# Altium footprint library ToponLib.PcbLib: 48 footprints (part 3 of 3)
Each footprint in its own frame and in the unit in brackets; x right, y up, seen from the top. Pads: shape width x height; smd on the part's side, far side on the other; paste and mask are expansions set on the pad; w line width, h text height; cw(c..) or ccw(c..) is an arc to the next point about the centre after c.
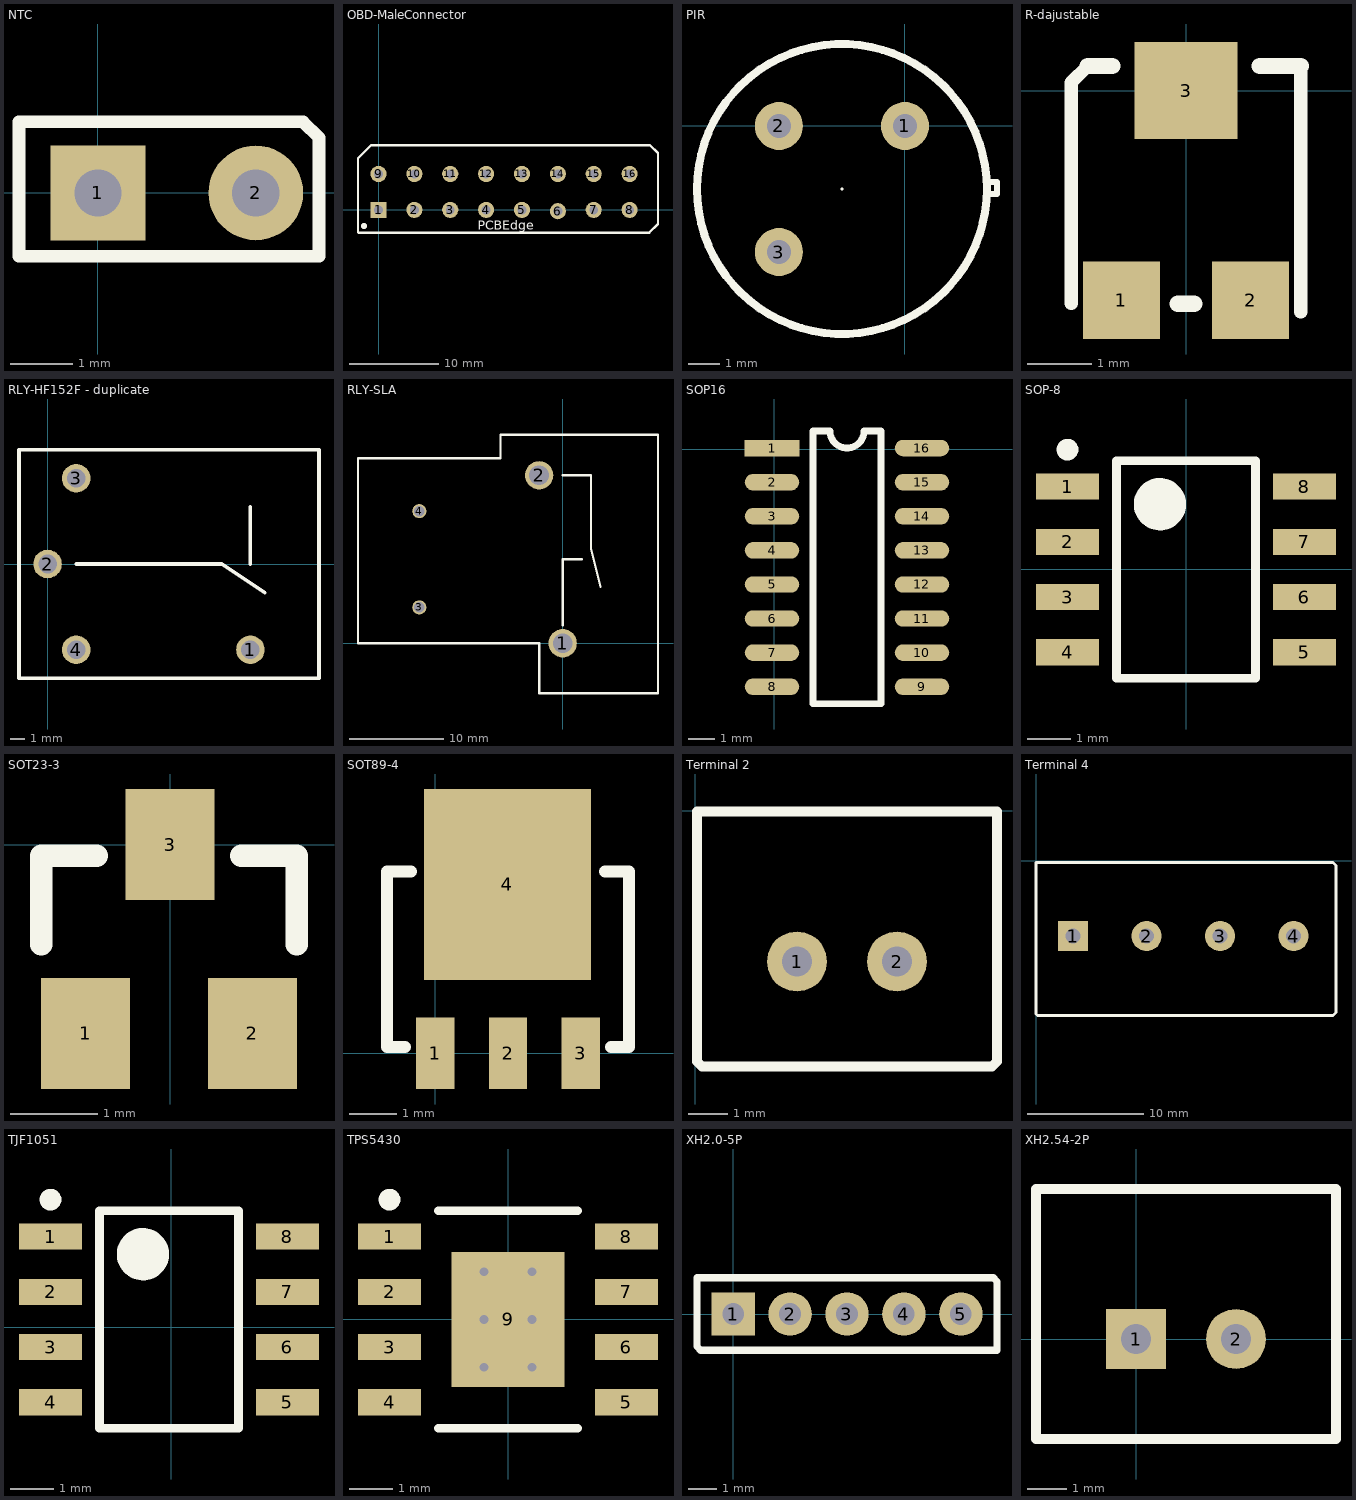
[diagram p2: the footprints below, top view; thin cyan lines are the x and y axes]

## NTC [mil]
pads (2):
  rect 60x60 hole 30: 1(0,0)
  round 60 hole 30: 2(100,0)
Top Overlay:
  lines w8: -50,-40 140,-40 140,35 130,45 -50,45 -50,-40

## OBD-MaleConnector [mm]
pads (16):
  rect 1.8x1.8 hole 1: 1(0,0)
  round 1.8 hole 1: 2(4,0) 3(8,0) 4(12,0) 5(16,0) 6(20,-0.152) 7(24,0) 8(28,0) 9(0,4) 10(4,4) 11(8,4) 12(12,4) 13(16,4) 14(20,4) 15(24,4) 16(28,4)
Top Overlay:
  circle w0.4: c-1.626,-1.803 r0.137
  lines w0.254: -2.286,-2.489 -2.21,-2.565 -0.127,-2.565 30.175,-2.565 31.166,-1.575 31.166,6.325 30.277,7.214 -0.838,7.214 -2.286,5.766 -2.286,-2.489
  text "PCBEdge" at 11.074,-2.21 h1

## PIR [mil]
pads (4):
  round 60 hole 30: 1(0,0) 2(-157.48,0) 3(-157.48,-157.48)
  round 3.94 on Top Overlay: 4(-78.74,-78.74)
Top Overlay:
  circle w10: c-78.74,-78.74 r181.1
  lines w8: 105,-70 115,-70 115,-85 108.62,-85

## R-dajustable [mm]
pads (3):
  rect 1.2x1.2 smd: 1(-1,-3.25) 2(1,-3.25)
  rect 1.6x1.5 smd: 3(0,0)
Top Overlay:
  lines w0.203: -1.778,-3.302 -1.778,0.127 -1.524,0.381 ; 1.778,-3.429 1.778,0.381
  lines w0.254: -1.524,0.381 -1.143,0.381 ; -0.127,-3.302 0.127,-3.302 ; 1.143,0.381 1.778,0.381

## RLY-HF152F - duplicate [mm]
pads (4):
  round 2 hole 1.3: 1(14.2,-6) 2(0,0) 3(2,6) 4(2,-6)
Top Overlay:
  lines w0.254: 2,0 12.2,0 15.2,-2 ; 14.2,0 14.2,4 ; -2,-8 19,-8 19,8 -2,8 -2,-8

## RLY-SLA [mm]
pads (4):
  round 3 hole 2.1: 1(0,0) 2(-2.5,17.8)
  round 1.5 hole 1.1: 3(-15.2,3.8) 4(-15.2,14)
Top Overlay:
  lines w0.254: 0,1.9 0,8.9 ; 0,17.8 3,17.8 3,10 4,6 ; 0.012,8.9 2.012,8.9 ; -21.7,0 -21.7,19.6 -6.6,19.6 -6.6,22.1 10.1,22.1 10.1,-5.3 -2.5,-5.3 -2.5,0 -21.7,0

## SOP16 [mil]
pads (16):
  rect 80x24 smd: 1(-3.54,1.97)
  oval 80x24 smd: 2(-3.54,-48.03) 3(-3.54,-98.03) 4(-3.54,-148.03) 5(-3.54,-198.03) 6(-3.54,-248.03) 7(-3.54,-298.03) 8(-3.54,-348.03) 9(216.46,-348.03) 10(216.46,-298.03) 11(216.46,-248.03) 12(216.46,-198.03) 13(216.46,-148.03) 14(216.46,-98.03) 15(216.46,-48.03) 16(216.46,1.97)
Top Overlay:
  lines w10: 56.46,-373.03 156.46,-373.03 156.46,26.97 131.46,26.97 cw(c106.46,26.97) 81.46,26.97 56.46,26.97 56.46,-373.03

## SOP-8 [mm]
height 1.75
pads (8):
  rect 1.45x0.6 smd: 1(-2.725,1.905) 2(-2.725,0.635) 3(-2.725,-0.635) 4(-2.725,-1.905) 5(2.725,-1.905) 6(2.725,-0.635) 7(2.725,0.635) 8(2.725,1.905)
Top Overlay:
  circle w0.6: c-0.6,1.5 r0.3
  circle w0.25: c-2.725,2.755 r0.125
  lines w0.2: -1.6,-2.5 1.6,-2.5 1.6,2.5 -1.6,2.5 -1.6,-2.5

## SOT23-3 [mil]
pads (3):
  rect 40x50 smd: 1(-37.99,-85) 2(37.01,-85) 3(0.01,0)
Top Overlay:
  lines w10: -57.99,-45 -57.99,-5 -32.99,-5 ; 32.01,-5 57.01,-5 57.01,-45

## SOT89-4 [mm]
pads (4):
  rect 0.8x1.5 smd: 1(0,0) 2(1.524,0) 3(3.048,0)
  rect 3.5x4 smd: 4(1.512,3.538)
Top Overlay:
  lines w0.254: -0.635,0.127 -1.016,0.127 -1.016,3.81 -0.508,3.81 ; 3.556,3.81 4.064,3.81 4.064,0.127 3.683,0.127

## Terminal 2 [mil]
pads (2):
  round 60 hole 30: 1(102,-151) 2(202,-151)
Top Overlay:
  lines w10: 2,-251 7,-256 297,-256 302,-251 302,-1 2,-1 2,-251

## Terminal 4 [mm]
pads (4):
  rect 2.6x2.6 hole 1.3: 1(3.2,-6.502)
  round 2.6 hole 1.3: 2(9.55,-6.502) 3(15.9,-6.502) 4(22.25,-6.502)
Top Overlay:
  lines w0.254: 0,-13.233 0,-0.152 25.654,-0.152 25.908,-0.406 25.908,-13.106 25.654,-13.36 0.508,-13.36 0.127,-13.36 0,-13.233

## TJF1051 [mm]
pads (8):
  rect 1.45x0.6 smd: 1(-2.776,2.083) 2(-2.776,0.813) 3(-2.776,-0.457) 4(-2.776,-1.727) 5(2.674,-1.727) 6(2.674,-0.457) 7(2.674,0.813) 8(2.674,2.083)
Top Overlay:
  circle w0.25: c-2.776,2.933 r0.125
  circle w0.6: c-0.651,1.678 r0.3
  lines w0.2: -1.651,-2.322 -1.651,2.678 1.549,2.678 1.549,-2.322 -1.651,-2.322

## TPS5430 [mm]
pads (9):
  rect 1.45x0.6 smd: 1(-2.725,1.905) 2(-2.725,0.635) 3(-2.725,-0.635) 4(-2.725,-1.905) 5(2.725,-1.905) 6(2.725,-0.635) 7(2.725,0.635) 8(2.725,1.905)
  rect 2.6x3.1 smd: 9(0,0)
via 0.55,-1.1 diameter 0.5 hole 0.2
via -0.55,-1.1 diameter 0.5 hole 0.2
via 0.55,0 diameter 0.5 hole 0.2
via -0.55,0 diameter 0.5 hole 0.2
via 0.55,1.1 diameter 0.5 hole 0.2
via -0.55,1.1 diameter 0.5 hole 0.2
Top Overlay:
  circle w0.25: c-2.725,2.755 r0.125
  lines w0.2: -1.6,-2.5 1.6,-2.5 ; -1.6,2.5 1.6,2.5

## XH2.0-5P [mil]
pads (5):
  rect 60x60 hole 30: 1(0,0)
  round 60 hole 30: 2(78.74,0) 3(157.48,0) 4(236.22,0) 5(314.96,0)
Top Overlay:
  lines w10: -50,-45 -45,-50 365,-50 365,45 360,50 -50,50 -50,-25 -50,-45

## XH2.54-2P [mil]
pads (2):
  rect 60x60 hole 30: 1(0,0)
  round 60 hole 30: 2(100,0)
Top Overlay:
  lines w10: -100,-100 -100,150 200,150 200,-100 -100,-100